# Altium schematic symbol library PocketLab_DMM_EVT0.SchLib: 42 symbols (part 2 of 3)
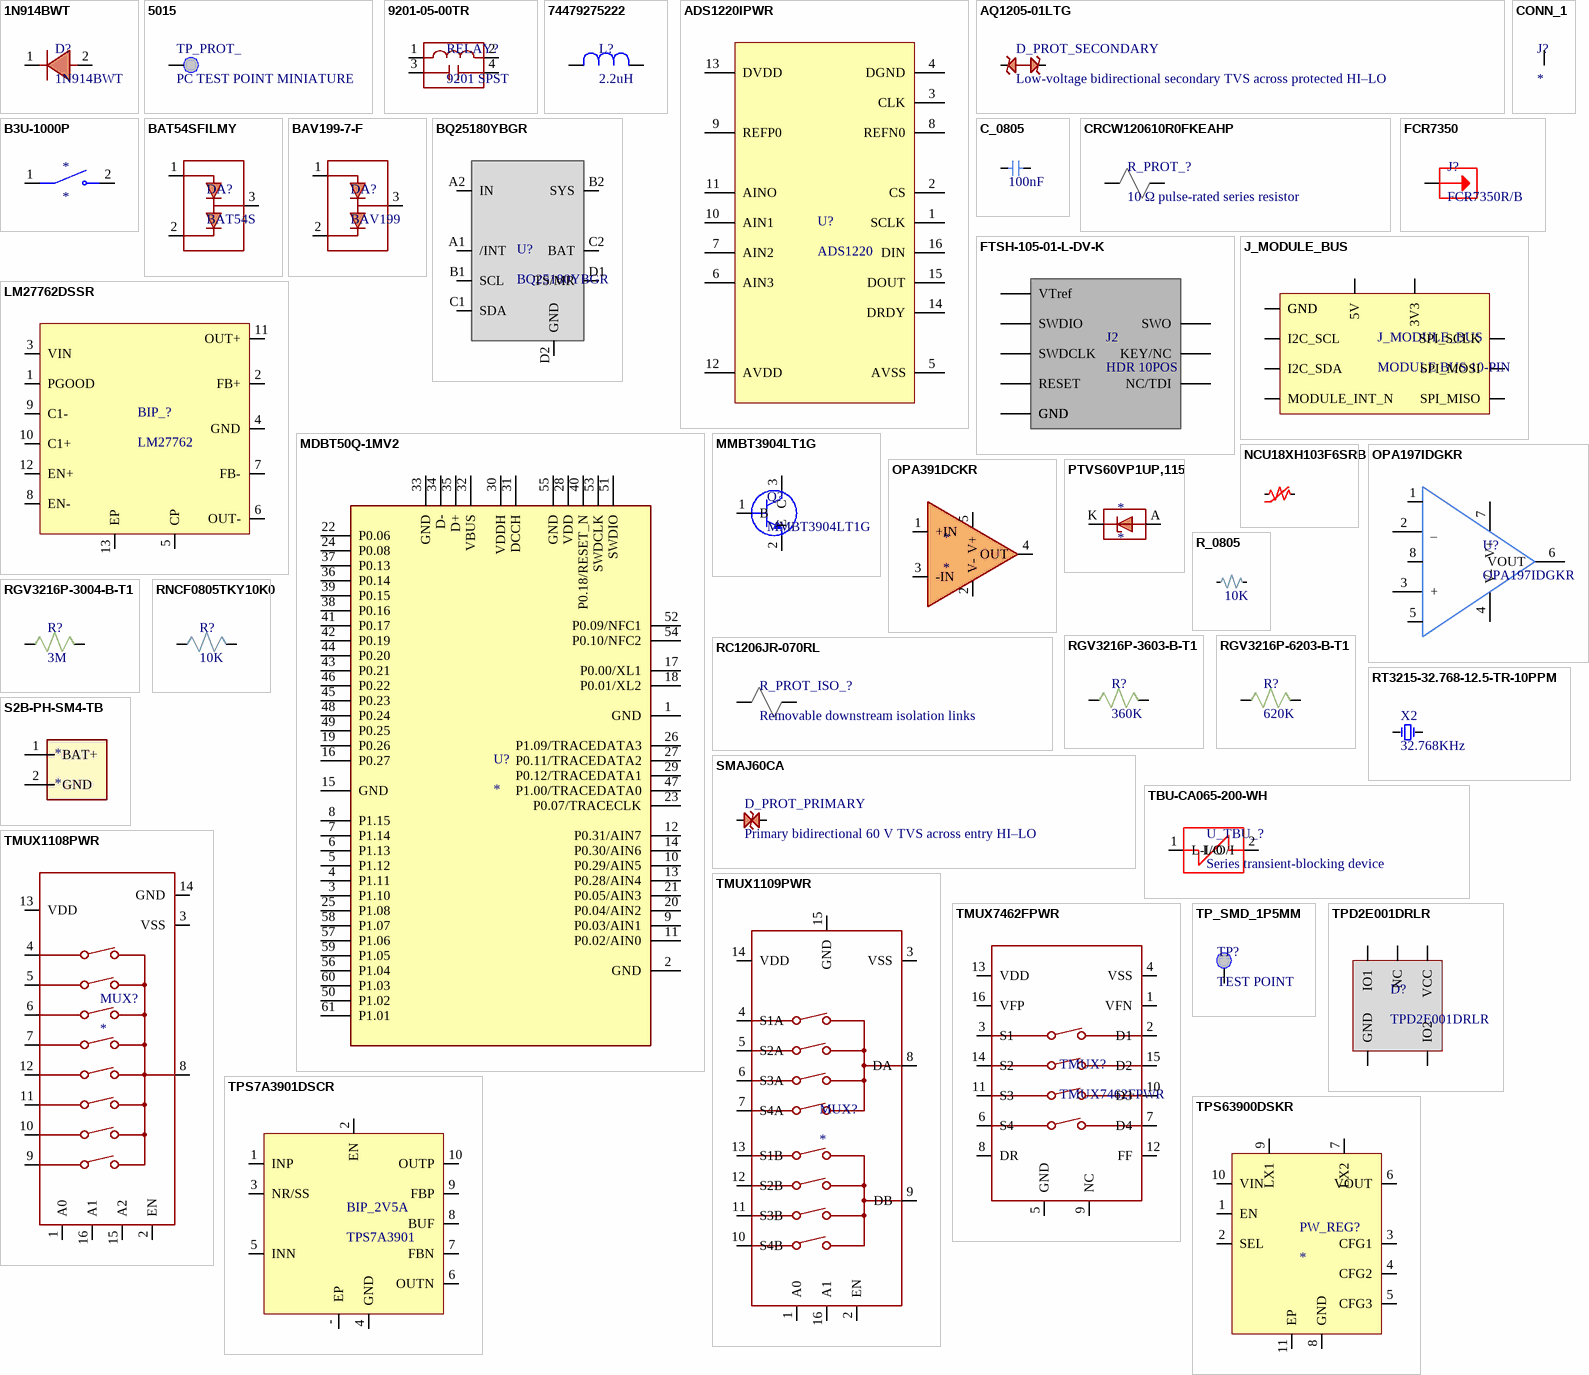
[diagram p2: symbols 1N914BWT to TPS63900DSKR]

## FTSH-105-01-L-DV-K
designator J2, comment HDR 10POS
CONN HEADER SMD 10POS 1.27MM / Connector Header Surface Mount 10 position 0.050" (1.27mm); Manufacturer: Samtec; Manufacturer Part Number: FTSH-105-01-L-DV-K; Manufacturer Lifecycle Status: PRODUCTION; Connector Type: Male Pin; Gender: Female; Max Current Rating: 1.75A; Number of Contacts: 10; Supplier: DigiKey; Supplier Part Number: SAM8799-ND; RoHS: Compliant; Category: Headers and Wire Housings; Stock: 47624; Pricing: 1=1.37, 100=1.075, 250=0.972, 500=0.855, 1000=0.753, 2500=0.68, 5000=0.607, 10000=0.52375 (USD); Color: Black; Contact Material: Bronze; Contact Mating Length: 3.048mm; Contact Plating: Gold; Depth: 3.43mm; Housing Color: Black; Housing Material: Polymer; Lead Free: Lead Free; Length: 6.35mm; Lifecycle Status: Production; Max Operating Temperature: 125°C; Min Operating Temperature: -55°C; Mounting Technology: Surface Mount; Pins: 10; Number of Positions: 10; Number of Rows: 2; Pitch: 1.27mm; Radiation Hardening: No; REACH SVHC: No; Row Spacing: 1.27mm; Termination: Solder; ComponentLink1URL: https://datasheet.octopart.com:443/FTSH-105-01-L-DV-K-Samtec-datasheet-140825048.pdf?src-supplier=Electro+Sonic; ComponentLink1Description: https://datasheet.octopart.com:443/FTSH-105-01-L-DV-K-Samtec-datasheet-140825048.pdf?src-supplier=Electro+Sonic; ComponentLink2URL: https://datasheet.octopart.com:443/FTSH-105-01-L-DV-K-Samtec-datasheet-86818370.pdf?src-supplier=Upverter; ComponentLink2Description: https://datasheet.octopart.com:443/FTSH-105-01-L-DV-K-Samtec-datasheet-86818370.pdf?src-supplier=Upverter; ComponentLink3URL: https://datasheet.octopart.com:443/FTSH-105-01-L-DV-K-Samtec-datasheet-97029545.pdf?src-supplier=Newark; ComponentLink3Description: https://datasheet.octopart.com:443/FTSH-105-01-L-DV-K-Samtec-datasheet-97029545.pdf?src-supplier=Newark; ComponentLink4URL: https://datasheet.octopart.com:443/FTSH-105-01-L-DV-K-Samtec-datasheet-41642889.pdf?src-supplier=Newark; ComponentLink4Description: https://datasheet.octopart.com:443/FTSH-105-01-L-DV-K-Samtec-datasheet-41642889.pdf?src-supplier=Newark; ComponentLink5URL: https://sigma.octopart.com:443/140871554/technical_drawing/Samtec-FTSH-105-01-L-DV-K.pdf?src-supplier=Samtec; ComponentLink5Description: https://sigma.octopart.com:443/140871554/technical_drawing/Samtec-FTSH-105-01-L-DV-K.pdf?src-supplier=Samtec; ComponentLink6URL: https://sigma.octopart.com:443/97029548/technical_drawing/Samtec-FTSH-105-01-L-DV-K.pdf?src-supplier=Samtec; ComponentLink6Description: https://sigma.octopart.com:443/97029548/technical_drawing/Samtec-FTSH-105-01-L-DV-K.pdf?src-supplier=Samtec; ComponentLink7URL: https://datasheet.octopart.com:443/FTSH-105-01-L-DV-K-Samtec-datasheet-100454331.pdf?src-supplier=Farnell; ComponentLink7Description: https://datasheet.octopart.com:443/FTSH-105-01-L-DV-K-Samtec-datasheet-100454331.pdf?src-supplier=Farnell; ComponentLink8URL: https://datasheet.octopart.com:443/FTSH-105-01-L-DV-K-Samtec-datasheet-33007714.pdf?src-supplier=Farnell; ComponentLink8Description: https://datasheet.octopart.com:443/FTSH-105-01-L-DV-K-Samtec-datasheet-33007714.pdf?src-supplier=Farnell; ComponentLink9URL: https://datasheet.octopart.com:443/FTSH-105-01-L-DV-K-Samtec-datasheet-16646209.pdf?src-supplier=element14+APAC; ComponentLink9Description: https://datasheet.octopart.com:443/FTSH-105-01-L-DV-K-Samtec-datasheet-16646209.pdf?src-supplier=element14+APAC; ComponentLink10URL: https://datasheet.octopart.com:443/FTSH-105-01-L-DV-K-Samtec-datasheet-180249087.pdf?src-supplier=JRH+Electronics; ComponentLink10Description: https://datasheet.octopart.com:443/FTSH-105-01-L-DV-K-Samtec-datasheet-180249087.pdf?src-supplier=JRH+Electronics; ComponentLink11URL: https://datasheet.octopart.com:443/FTSH-105-01-L-DV-K-Samtec-datasheet-176663386.pdf?src-supplier=Toby+Electronics; ComponentLink11Description: https://datasheet.octopart.com:443/FTSH-105-01-L-DV-K-Samtec-datasheet-176663386.pdf?src-supplier=Toby+Electronics; ComponentLink12URL: https://datasheet.octopart.com:443/FTSH-105-01-L-DV-K-Samtec-datasheet-133497664.pdf?src-supplier=Toby+Electronics; ComponentLink12Description: https://datasheet.octopart.com:443/FTSH-105-01-L-DV-K-Samtec-datasheet-133497664.pdf?src-supplier=Toby+Electronics; ComponentLink13URL: https://datasheet.octopart.com:443/FTSH-105-01-L-DV-K-Samtec-datasheet-116535196.pdf?src-supplier=Toby+Electronics; ComponentLink13Description: https://datasheet.octopart.com:443/FTSH-105-01-L-DV-K-Samtec-datasheet-116535196.pdf?src-supplier=Toby+Electronics; ComponentLink14URL: https://datasheet.octopart.com:443/FTSH-105-01-L-DV-K-Samtec-datasheet-151470459.pdf?src-supplier=Sager+Electronics; ComponentLink14Description: https://datasheet.octopart.com:443/FTSH-105-01-L-DV-K-Samtec-datasheet-151470459.pdf?src-supplier=Sager+Electronics; ComponentLink15URL: https://datasheet.octopart.com:443/FTSH-105-01-L-DV-K-Samtec-datasheet-151470458.pdf?src-supplier=Sager+Electronics; ComponentLink15Description: https://datasheet.octopart.com:443/FTSH-105-01-L-DV-K-Samtec-datasheet-151470458.pdf?src-supplier=Sager+Electronics; ComponentLink16URL: https://datasheet.octopart.com:443/FTSH-105-01-L-DV-K-Samtec-datasheet-137316104.pdf?src-supplier=Future+Electronics; ComponentLink16Description: https://datasheet.octopart.com:443/FTSH-105-01-L-DV-K-Samtec-datasheet-137316104.pdf?src-supplier=Future+Electronics; ComponentLink17URL: https://datasheet.octopart.com/FTSH-105-01-L-DV-K-Samtec-datasheet-13696953.pdf; ComponentLink17Description: https://datasheet.octopart.com/FTSH-105-01-L-DV-K-Samtec-datasheet-13696953.pdf; ComponentLink18URL: https://datasheet.octopart.com/FTSH-105-01-L-DV-K-Samtec-datasheet-11553404.pdf; ComponentLink18Description: https://datasheet.octopart.com/FTSH-105-01-L-DV-K-Samtec-datasheet-11553404.pdf
footprint FTSH-105-01-L-DV-K (CONN HEADER SMD 10POS 1.27MM)
pins: 1 VTref, 2 SWDIO, 3 GND, 4 SWDCLK, 5 GND, 6 SWO, 7 KEY/NC, 8 NC/TDI, 9 GND, 10 RESET

## J_MODULE_BUS
designator J_MODULE_BUS, comment MODULE BUS 10-PIN
10-pin stackable module interface for power, I2C, SPI, and shared interrupt
footprint MODULE_BUS_10_TAB_SLOT (10-pin stackable module interface for power, I2C, SPI, and shared interrupt)
pins: 1 GND, 2 5V, 3 3V3, 4 GND, 5 I2C_SCL, 6 I2C_SDA, 7 SPI_SCLK, 8 SPI_MOSI, 9 SPI_MISO, 10 MODULE_INT_N

## LM27762DSSR
designator BIP_?, comment LM27762
IC REG CHARGE PUMP ADJ DL 12WSON; Manufacturer: Texas Instruments; Manufacturer Part Number: LM27762DSSR; Manufacturer Lifecycle Status: ACTIVE; Max Junction Temperature (Tj): 125°C; Max Supply Voltage: 5.5V; Min Supply Voltage: 2.7V; Nominal Supply Current: 390µA; Number of Outputs: 2; Output Current: 250mA; Switching Frequency: 2MHz; Supplier: DigiKey; Supplier Part Number: 296-47331-1-ND; RoHS: Compliant; Category: Voltage Regulators - Linear; Stock: 13224; Pricing: 1=2.31, 10=1.71, 25=1.56, 100=1.3951, 250=1.3166, 500=1.27756 (USD); Ambient Temperature Range High: 85°C; Height: 800µm; Lead Free: Lead Free; Length: 2mm; Lifecycle Status: Production; Max Operating Temperature: 85°C; Min Operating Temperature: -40°C; Pins: 12; Quiescent Current: 390µA; Schedule B: 8542390000, 8542390000|8542390000|8542390000|8542390000|8542390000|8542390000|8542390000|8542390000|8542390000|8542390000|8542390000|8542390000|8542390000|8542390000|8542390000|8542390000|8542390000|8542390000|8542390000|8542390000|8542390000|8542390000|8542390000|85; Thickness: 750µm; Topology: Charge Pump; Width: 3mm; ComponentLink1URL: https://sigma.octopart.com:443/81678663/technical_drawing/Texas-Instruments-LM27762DSSR.pdf?src-supplier=Texas+Instruments; ComponentLink1Description: https://sigma.octopart.com:443/81678663/technical_drawing/Texas-Instruments-LM27762DSSR.pdf?src-supplier=Texas+Instruments; ComponentLink2URL: https://octopart.com:443/opatz8j6/c1?t=qGW3fZh6rbzjUEzWZb6D8x9Jd9q3NO4LuKNvuUXcmNXskur0gYfHNShI7YjLnZogpd9ODFUKBHAv0xEzrjgN1BrsAvb29dPQQtindGASqOiPvbwzUittcVayaRgSMCg2PyURFa49judjR-51k2Tshh2avWoGwgQTauKHgHZEW1Mi2Ud_2FxC8vdIlRVQjGWOBt96NojCfVSAyBJQfCKlmTnPWgt58ShaVxaP5ZSWMNo2UvVyuLyEyCOAoev3GSskx9qmSgTKhJ3cbX_JDZZZwra_UfmHMAAkkgUJY6mu---dDSxqTCFw1RGrjYUCVaQP1B7olnvSIU_HpNn-bohxhx31vydGjWcs0o-BEum2ZwS4owcBlLlUIutb_ZCv9KPs3-sdHNg&src-supplier=Texas+Instruments; ComponentLink2Description: https://octopart.com:443/opatz8j6/c1?t=qGW3fZh6rbzjUEzWZb6D8x9Jd9q3NO4LuKNvuUXcmNXskur0gYfHNShI7YjLnZogpd9ODFUKBHAv0xEzrjgN1BrsAvb29dPQQtindGASqOiPvbwzUittcVayaRgSMCg2PyURFa49judjR-51k2Tshh2avWoGwgQTauKHgHZEW1Mi2Ud_2FxC8vdIlRVQjGWOBt96NojCfVSAyBJQfCKlmTnPWgt58ShaVxaP5ZSWMNo2UvVyuLyEyCOAoev3GSskx9qmSgTKhJ3cbX_JDZZZwra_UfmHMAAkkgUJY6mu---dDSxqTCFw1RGrjYUCVaQP1B7olnvSIU_HpNn-bohxhx31vydGjWcs0o-BEum2ZwS4owcBlLlUIutb_ZCv9KPs3-sdHNg&src-supplier=Texas+Instruments; ComponentLink3URL: https://sigma.octopart.com:443/49250719/technical_drawing/Texas-Instruments-LM27762DSSR.pdf?src-supplier=Texas+Instruments; ComponentLink3Description: https://sigma.octopart.com:443/49250719/technical_drawing/Texas-Instruments-LM27762DSSR.pdf?src-supplier=Texas+Instruments; ComponentLink4URL: https://datasheet.octopart.com:443/LM27762DSSR-Texas-Instruments-datasheet-159115144.pdf?src-supplier=LCSC; ComponentLink4Description: https://datasheet.octopart.com:443/LM27762DSSR-Texas-Instruments-datasheet-159115144.pdf?src-supplier=LCSC; ComponentLink5URL: https://datasheet.octopart.com:443/LM27762DSSR-Texas-Instruments-datasheet-164414993.pdf?src-supplier=SHENGYU+ELECTRONICS; ComponentLink5Description: https://datasheet.octopart.com:443/LM27762DSSR-Texas-Instruments-datasheet-164414993.pdf?src-supplier=SHENGYU+ELECTRONICS; ComponentLink6URL: https://datasheet.octopart.com:443/LM27762DSSR-Texas-Instruments-datasheet-150873029.pdf?src-supplier=Arrow.cn; ComponentLink6Description: https://datasheet.octopart.com:443/LM27762DSSR-Texas-Instruments-datasheet-150873029.pdf?src-supplier=Arrow.cn; ComponentLink7URL: https://datasheet.octopart.com:443/LM27762DSSR-Texas-Instruments-datasheet-137316104.pdf?src-supplier=Future+Electronics; ComponentLink7Description: https://datasheet.octopart.com:443/LM27762DSSR-Texas-Instruments-datasheet-137316104.pdf?src-supplier=Future+Electronics; ComponentLink8URL: http://sigma.octopart.com:80/reach_statement/Texas-Instruments-company-64.pdf?src-supplier=Compliance+Statements; ComponentLink8Description: http://sigma.octopart.com:80/reach_statement/Texas-Instruments-company-64.pdf?src-supplier=Compliance+Statements; ComponentLink9URL: http://sigma.octopart.com:80/conflict_mineral_statement/Texas-Instruments-company-63.pdf?src-supplier=Compliance+Statements; ComponentLink9Description: http://sigma.octopart.com:80/conflict_mineral_statement/Texas-Instruments-company-63.pdf?src-supplier=Compliance+Statements
footprint LM27762
pins: 1 PGOOD, 2 FB+, 3 VIN, 4 GND, 5 CP, 6 OUT-, 7 FB-, 8 EN-, 9 C1-, 10 C1+, 11 OUT+, 12 EN+, 13 EP

## MDBT50Q-1MV2
designator U?
802.15.4, Bluetooth Bluetooth v5.4, ZigbeeÂ® Transceiver Module 2.36GHz ~ 2.5GHz Integrated, Chip Surface Mount; MF: Raytac Corporation; MP: MDBT50Q-1MV2; SnapEDA_Link: https://www.snapeda.com/parts/MDBT50Q-1MV2/Raytac+Corporation/view-part/?ref=snap; Package: SMD-61 Raytac Corporation; Value: *; Check_prices: https://www.snapeda.com/parts/MDBT50Q-1MV2/Raytac+Corporation/view-part/?ref=eda
footprint NRF52840_MDBT50Q-1MV2
pins: 1 GND, 2 GND, 3 P1.10, 4 P1.11, 5 P1.12, 6 P1.13, 7 P1.14, 8 P1.15, 9 P0.03/AIN1, 10 P0.29/AIN5, 11 P0.02/AIN0, 12 P0.31/AIN7, 13 P0.28/AIN4, 14 P0.30/AIN6, 15 GND, 16 P0.27, 17 P0.00/XL1, 18 P0.01/XL2, 19 P0.26, 20 P0.04/AIN2, 21 P0.05/AIN3, 22 P0.06, 23 P0.07/TRACECLK, 24 P0.08, 25 P1.08, 26 P1.09/TRACEDATA3, 27 P0.11/TRACEDATA2, 28 VDD, 29 P0.12/TRACEDATA1, 30 VDDH, 31 DCCH, 32 VBUS, 33 GND, 34 D-, 35 D+, 36 P0.14, 37 P0.13, 38 P0.16, 39 P0.15, 40 P0.18/RESET_N, 41 P0.17, 42 P0.19, 43 P0.21, 44 P0.20, 45 P0.23, 46 P0.22, 47 P1.00/TRACEDATA0, 48 P0.24, 49 P0.25, 50 P1.02, 51 SWDIO, 52 P0.09/NFC1, 53 SWDCLK, 54 P0.10/NFC2, 55 GND, 56 P1.04, 57 P1.06, 58 P1.07, 59 P1.05, 60 P1.03, 61 P1.01

## MMBT3904LT1G
designator Q?
TRANS NPN 40V 0.2A SOT23-3; Manufacturer: onsemi; Manufacturer Lifecycle Status: ACTIVE; Collector Base Voltage (VCBO): 60V; Collector Emitter Saturation Voltage: 200mV; Current Rating: 200mA; Element Configuration: Single; Emitter Base Voltage (VEBO): 6V; Frequency: 300MHz; hFE Min: 30; Max Junction Temperature (Tj): 150°C; Max Power Dissipation: 300mW; Number of Elements: 1; Power Dissipation: 225mW; Type: General Purpose; Supplier: DigiKey; Supplier Part Number: MMBT3904LT1GOSDKR-ND; Manufacturer Part Number: MMBT3904LT1G; RoHS: Compliant; Category: BJTs; Stock: 189758; Pricing: 1=0.14, 10=0.086, 100=0.0527, 500=0.03806, 1000=0.03329 (USD); Case/Package: SOT-23; China RoHS: Compliant; Collector Emitter Breakdown Voltage: 40V; Collector Emitter Voltage (VCEO): 40V; Contact Plating: Tin; Gain Bandwidth Product: 300MHz; Height: 1.11mm; Lead Free: Lead Free; Length: 2.9mm; Lifecycle Status: Production; Max Breakdown Voltage: 40V; Max Collector Current: 200mA; Clock Frequency: 300MHz; Max Operating Temperature: 150°C; Min Operating Temperature: -55°C; Pins: 3; Number of Terminals: 3; Packaging: Tape and Reel; Polarity: NPN; Radiation Hardening: No; REACH SVHC: Yes; Schedule B: 8541210080; Transition Frequency: 300MHz; Voltage Rating (DC): 40V; Width: 1.3mm; ComponentLink1URL: https://datasheet.octopart.com:443/MMBT3904LT1G-ON-Semiconductor-datasheet-11971584.pdf?src-supplier=Upverter; ComponentLink1Description: https://datasheet.octopart.com:443/MMBT3904LT1G-ON-Semiconductor-datasheet-11971584.pdf?src-supplier=Upverter; ComponentLink2URL: https://datasheet.octopart.com:443/MMBT3904LT1G-ON-Semiconductor-datasheet-618661.pdf?src-supplier=Upverter; ComponentLink2Description: https://datasheet.octopart.com:443/MMBT3904LT1G-ON-Semiconductor-datasheet-618661.pdf?src-supplier=Upverter; ComponentLink3URL: https://datasheet.octopart.com:443/MMBT3904LT1G-ON-Semiconductor-datasheet-8327178.pdf?src-supplier=Upverter; ComponentLink3Description: https://datasheet.octopart.com:443/MMBT3904LT1G-ON-Semiconductor-datasheet-8327178.pdf?src-supplier=Upverter; ComponentLink4URL: https://sigma.octopart.com:443/138897241/technical_drawing/ON-Semiconductor-MMBT3904LT1G.pdf?src-supplier=Upverter; ComponentLink4Description: https://sigma.octopart.com:443/138897241/technical_drawing/ON-Semiconductor-MMBT3904LT1G.pdf?src-supplier=Upverter; ComponentLink5URL: https://datasheet.octopart.com:443/MMBT3904LT1G-ON-Semiconductor-datasheet-94100684.pdf?src-supplier=Newark; ComponentLink5Description: https://datasheet.octopart.com:443/MMBT3904LT1G-ON-Semiconductor-datasheet-94100684.pdf?src-supplier=Newark; ComponentLink6URL: https://datasheet.octopart.com:443/MMBT3904LT1G-onsemi-datasheet-175423507.pdf?src-supplier=IHS; ComponentLink6Description: https://datasheet.octopart.com:443/MMBT3904LT1G-onsemi-datasheet-175423507.pdf?src-supplier=IHS; ComponentLink7URL: https://datasheet.octopart.com:443/MMBT3904LT1G-ON-Semiconductor-datasheet-15850735.pdf?src-supplier=element14+APAC; ComponentLink7Description: https://datasheet.octopart.com:443/MMBT3904LT1G-ON-Semiconductor-datasheet-15850735.pdf?src-supplier=element14+APAC; ComponentLink8URL: https://datasheet.octopart.com:443/MMBT3904LT1G-onsemi-datasheet-157205106.pdf?src-supplier=TME; ComponentLink8Description: https://datasheet.octopart.com:443/MMBT3904LT1G-onsemi-datasheet-157205106.pdf?src-supplier=TME; ComponentLink9URL: https://datasheet.octopart.com:443/MMBT3904LT1G-ON-Semiconductor-datasheet-42916338.pdf?src-supplier=Seeed+Studio; ComponentLink9Description: https://datasheet.octopart.com:443/MMBT3904LT1G-ON-Semiconductor-datasheet-42916338.pdf?src-supplier=Seeed+Studio; ComponentLink10URL: https://datasheet.octopart.com:443/MMBT3904LT1G-ON-Semiconductor-datasheet-14065146.pdf?src-supplier=iiiC; ComponentLink10Description: https://datasheet.octopart.com:443/MMBT3904LT1G-ON-Semiconductor-datasheet-14065146.pdf?src-supplier=iiiC; ComponentLink11URL: https://datasheet.octopart.com:443/MMBT3904LT1G-onsemi-datasheet-11078203.pdf?src-supplier=Master+Electronics; ComponentLink11Description: https://datasheet.octopart.com:443/MMBT3904LT1G-onsemi-datasheet-11078203.pdf?src-supplier=Master+Electronics; ComponentLink12URL: https://datasheet.octopart.com:443/MMBT3904LT1G-ON-Semiconductor-datasheet-9992889.pdf?src-supplier=RS+(Formerly+Allied+Electronics); ComponentLink12Description: https://datasheet.octopart.com:443/MMBT3904LT1G-ON-Semiconductor-datasheet-9992889.pdf?src-supplier=RS+(Formerly+Allied+Electronics); ComponentLink13URL: http://sigma.octopart.com:80/150618431/rohs_statement/ON-Semiconductor-MMBT3904LT1G.pdf?src-supplier=Compliance+Statements; ComponentLink13Description: http://sigma.octopart.com:80/150618431/rohs_statement/ON-Semiconductor-MMBT3904LT1G.pdf?src-supplier=Compliance+Statements; ComponentLink14URL: http://sigma.octopart.com:80/reach_statement/ON-Semiconductor-company-79.pdf?src-supplier=Compliance+Statements; ComponentLink14Description: http://sigma.octopart.com:80/reach_statement/ON-Semiconductor-company-79.pdf?src-supplier=Compliance+Statements; ComponentLink15URL: http://sigma.octopart.com:80/rohs_statement/Fairchild-Semiconductor-company-11.pdf?src-supplier=Compliance+Statements; ComponentLink15Description: http://sigma.octopart.com:80/rohs_statement/Fairchild-Semiconductor-company-11.pdf?src-supplier=Compliance+Statements; ComponentLink16URL: http://sigma.octopart.com:80/rohs_statement/Fairchild-Semiconductor-company-10.pdf?src-supplier=Compliance+Statements; ComponentLink16Description: http://sigma.octopart.com:80/rohs_statement/Fairchild-Semiconductor-company-10.pdf?src-supplier=Compliance+Statements; ComponentLink17URL: http://sigma.octopart.com:80/reach_statement/Fairchild-Semiconductor-company-9.pdf?src-supplier=Compliance+Statements; ComponentLink17Description: http://sigma.octopart.com:80/reach_statement/Fairchild-Semiconductor-company-9.pdf?src-supplier=Compliance+Statements; ComponentLink18URL: https://octopart.com:443/opatz8j6/c1?t=6Xn7ZrF6hysOUC84qlrSqY4wiQdrN-mPXKQ_8Rla8IkVly0DBC3XMOxgBnPoFxbPxSduxt1CU9xvbCNH0dZZ2fSPxrCiu0NHjXK1AEqfl5xODuP5YJP7pfSgZ8QNFl02tAnTqW6w1aVJmMTvNdbX5LfPzPLhtU1PYqNVsEPH2I4uNn2UF3IV2P2UT1zVRcnQIPoIWXKohBgaCPKWifMJG2N61Au2Wz4170xn6Vu5FG_CLPs0I4wu6gksT39gSmG6GKW27rzSZjefFxUNhsDMvXXdZPXoa_giO80NkyKEb8_6ha9AliWeLbEvMGgfnng9nYF8sw6XCX6uqkfeLxUIFVSSx4aXaZZhz9egcw&src-supplier=Compliance+Statements; ComponentLink18Description: https://octopart.com:443/opatz8j6/c1?t=6Xn7ZrF6hysOUC84qlrSqY4wiQdrN-mPXKQ_8Rla8IkVly0DBC3XMOxgBnPoFxbPxSduxt1CU9xvbCNH0dZZ2fSPxrCiu0NHjXK1AEqfl5xODuP5YJP7pfSgZ8QNFl02tAnTqW6w1aVJmMTvNdbX5LfPzPLhtU1PYqNVsEPH2I4uNn2UF3IV2P2UT1zVRcnQIPoIWXKohBgaCPKWifMJG2N61Au2Wz4170xn6Vu5FG_CLPs0I4wu6gksT39gSmG6GKW27rzSZjefFxUNhsDMvXXdZPXoa_giO80NkyKEb8_6ha9AliWeLbEvMGgfnng9nYF8sw6XCX6uqkfeLxUIFVSSx4aXaZZhz9egcw&src-supplier=Compliance+Statements; ComponentLink19URL: https://octopart.com:443/opatz8j6/c1?t=8IRzLcMOYTb9JijI-po6TFZCAUzXib-H1R20XCLpzmhIGre0bWRXe4ZO8lRdDfF3CLOGncXrdohN3KmiOTqxwjTHC1r89hWIZDbBVEUVc9Q9O159qKwDTUXpIzAsHJigIaeBGLyIo10FCT0IJpWkJe3Af8Ts36u8FHUZlIMCnry_JzPNglOFJd8Q37gYK_hPK5FL94xWLlsZYNj58V_g4S0R_SZTueiY5oHGNdfq_Zs3fbV3kHE__W-q6emv4yhSM8EHIIJwaXdr2iL-5-sB4yTOqwO_ItA84y4jC2VE_619edN7Ju53SNxRGHixzhXtKIq-sYkPqUptt85PTjBtSIydYnRzf0D6rRR5&src-supplier=Compliance+Statements; ComponentLink19Description: https://octopart.com:443/opatz8j6/c1?t=8IRzLcMOYTb9JijI-po6TFZCAUzXib-H1R20XCLpzmhIGre0bWRXe4ZO8lRdDfF3CLOGncXrdohN3KmiOTqxwjTHC1r89hWIZDbBVEUVc9Q9O159qKwDTUXpIzAsHJigIaeBGLyIo10FCT0IJpWkJe3Af8Ts36u8FHUZlIMCnry_JzPNglOFJd8Q37gYK_hPK5FL94xWLlsZYNj58V_g4S0R_SZTueiY5oHGNdfq_Zs3fbV3kHE__W-q6emv4yhSM8EHIIJwaXdr2iL-5-sB4yTOqwO_ItA84y4jC2VE_619edN7Ju53SNxRGHixzhXtKIq-sYkPqUptt85PTjBtSIydYnRzf0D6rRR5&src-supplier=Compliance+Statements
footprint MMBT3904
pins: 1 B, 2 E, 3 C

## NCU18XH103F6SRB
designator RT?  (value not drawn)
THERMISTOR NTC 10KOHM 3380K 0603 / NTC Thermistor 10k 0603 (1608 Metric); Manufacturer: Murata; Max Current Rating: 100µA; Value: 10kΩ; Tolerance: 1%; Voltage Rating: 5V; Supplier: DigiKey; Supplier Part Number: 490-18139-6-ND; Manufacturer Part Number: NCU18XH103F6SRB; RoHS: Compliant; Category: Variable Resistors and Potentiometers; Stock: 103374; Pricing: 1=0.14, 5=0.124, 10=0.117, 25=0.1076, 50=0.1016, 100=0.096, 500=0.08492, 1000=0.08083 (USD); Case/Package: 0603; Case Code (Imperial): 0603; Case Code (Metric): 1608; Export Control Classification Number (ECCN) Code: EAR99; Height: 800µm; Harmonized Tariff Schedule (HTS) Code: 8533.40.80.70; Introduction Date: 2016-05-16; Length: 1.6mm; Lifecycle Status: Production; Max Operating Temperature: 150°C; Min Operating Temperature: -55°C; Mounting Technology: Surface Mount; Number of Terminals: 2; Ratings: AEC-Q200; REACH SVHC: Yes; Schedule B: 8533400080, 8533400080|8533400080, 8533400080|8533400080|8533400080, 8533400080|8533400080|8533400080|8533400080; Width: 800µm; Working Voltage: 5V; ComponentLink1URL: https://datasheet.octopart.com:443/NCU18XH103F6SRB-Murata-datasheet-182145414.pdf?src-supplier=IHS; ComponentLink1Description: https://datasheet.octopart.com:443/NCU18XH103F6SRB-Murata-datasheet-182145414.pdf?src-supplier=IHS; ComponentLink2URL: https://datasheet.octopart.com:443/NCU18XH103F6SRB-Murata-datasheet-65933868.pdf?src-supplier=Newark; ComponentLink2Description: https://datasheet.octopart.com:443/NCU18XH103F6SRB-Murata-datasheet-65933868.pdf?src-supplier=Newark; ComponentLink3URL: https://datasheet.octopart.com:443/NCU18XH103F6SRB-Murata-datasheet-181958153.pdf?src-supplier=Farnell; ComponentLink3Description: https://datasheet.octopart.com:443/NCU18XH103F6SRB-Murata-datasheet-181958153.pdf?src-supplier=Farnell; ComponentLink4URL: https://datasheet.octopart.com:443/NCU18XH103F6SRB-Murata-datasheet-138710245.pdf?src-supplier=ODG+(Origin+Data+Global); ComponentLink4Description: https://datasheet.octopart.com:443/NCU18XH103F6SRB-Murata-datasheet-138710245.pdf?src-supplier=ODG+(Origin+Data+Global); ComponentLink5URL: https://datasheet.octopart.com:443/NCU18XH103F6SRB-Murata-datasheet-141294565.pdf?src-supplier=Ciiva; ComponentLink5Description: https://datasheet.octopart.com:443/NCU18XH103F6SRB-Murata-datasheet-141294565.pdf?src-supplier=Ciiva; ComponentLink6URL: https://datasheet.octopart.com:443/NCU18XH103F6SRB-Murata-datasheet-165611801.pdf?src-supplier=TME; ComponentLink6Description: https://datasheet.octopart.com:443/NCU18XH103F6SRB-Murata-datasheet-165611801.pdf?src-supplier=TME; ComponentLink7URL: http://sigma.octopart.com:80/reach_statement/Murata-company-16.pdf?src-supplier=Compliance+Statements; ComponentLink7Description: http://sigma.octopart.com:80/reach_statement/Murata-company-16.pdf?src-supplier=Compliance+Statements
footprint NCU18_1608
pins: 1, 2

## OPA197IDGKR
designator U?
Precision rail-to-rail operational amplifier; Manufacturer: Texas Instruments; Manufacturer Lifecycle Status: ACTIVE; Bandwidth: 10MHz; Input Bias Current: 5pA; Input Offset Voltage (Vos): 25µV; Number of Amplifiers: 1; Operating Supply Current: 1mA; Output Current per Channel: 65mA; Slew Rate: 20V/µs; Supplier: DigiKey; Supplier Part Number: 296-44205-1-ND; Manufacturer Part Number: OPA197IDGKR; RoHS: Compliant; Category: Amplifiers - Op Amps, Buffer, Instrumentation; Stock: 2306; Pricing: 1=2.1, 10=1.548, 25=1.4112, 100=1.2599, 250=1.18784, 500=1.1475 (USD); Case/Package: VSSOP; Gain Bandwidth Product: 10MHz; Height: 0m; Lead Free: Lead Free; Length: 3mm; Lifecycle Status: Production; Max Operating Temperature: 125°C; Min Operating Temperature: -40°C; Mounting Technology: Surface Mount; Number of Channels: 1; Number of Circuits: 1; Pins: 8; Packaging: Cut Tape; REACH SVHC: No; Schedule B: 8542330000; Thickness: 970µm; Width: 3mm; ComponentLink1URL: https://sigma.octopart.com:443/178522223/technical_drawing/Texas-Instruments-OPA197IDGKR.pdf?src-supplier=Texas+Instruments; ComponentLink1Description: https://sigma.octopart.com:443/178522223/technical_drawing/Texas-Instruments-OPA197IDGKR.pdf?src-supplier=Texas+Instruments; ComponentLink2URL: https://octopart.com:443/opatz8j6/c1?t=FOH0RitQzD0XlKnT_NgRAgueVSVogVIH0_VtQKvX5g7tSbiKJHTY1QoPj-fRZWmhrDdG3-oaeD6KdjkigGqv_J-kshTw3jN_-Wt-WPxaVrD8pn1GPjwVJZnq1bl9XjIvoPWB7ZeLkdoepKv730yRgLbkP6aQFYp2DXOoQZirO_tZyNijjj9IWQhNZ18j4ImlA22DVwSTOFbSObjO7PzHae2dQ8oh_w5MV0QKndgc48Q4_peIBbvSJ5ut7KrVy2MbvjxsXzd0WmA-PvDo_y8MleauDzvSfGCoV1tfcR96dhtUS7VWbLwUJ1LuFIJRQw7vaioM7VjuujX3Pxl55TpYA49bpJc_AW7jaO84eqgHL_99ZB-Z4JMV0rb-u9axked6zFdf0Q&src-supplier=Texas+Instruments; ComponentLink2Description: https://octopart.com:443/opatz8j6/c1?t=FOH0RitQzD0XlKnT_NgRAgueVSVogVIH0_VtQKvX5g7tSbiKJHTY1QoPj-fRZWmhrDdG3-oaeD6KdjkigGqv_J-kshTw3jN_-Wt-WPxaVrD8pn1GPjwVJZnq1bl9XjIvoPWB7ZeLkdoepKv730yRgLbkP6aQFYp2DXOoQZirO_tZyNijjj9IWQhNZ18j4ImlA22DVwSTOFbSObjO7PzHae2dQ8oh_w5MV0QKndgc48Q4_peIBbvSJ5ut7KrVy2MbvjxsXzd0WmA-PvDo_y8MleauDzvSfGCoV1tfcR96dhtUS7VWbLwUJ1LuFIJRQw7vaioM7VjuujX3Pxl55TpYA49bpJc_AW7jaO84eqgHL_99ZB-Z4JMV0rb-u9axked6zFdf0Q&src-supplier=Texas+Instruments; ComponentLink3URL: https://datasheet.octopart.com:443/OPA197IDGKR-Texas-Instruments-datasheet-62062805.pdf?src-supplier=Texas+Instruments; ComponentLink3Description: https://datasheet.octopart.com:443/OPA197IDGKR-Texas-Instruments-datasheet-62062805.pdf?src-supplier=Texas+Instruments; ComponentLink4URL: https://sigma.octopart.com:443/49250154/technical_drawing/Texas-Instruments-OPA197IDGKR.pdf?src-supplier=Texas+Instruments; ComponentLink4Description: https://sigma.octopart.com:443/49250154/technical_drawing/Texas-Instruments-OPA197IDGKR.pdf?src-supplier=Texas+Instruments; ComponentLink5URL: https://datasheet.octopart.com:443/OPA197IDGKR-Texas-Instruments-datasheet-65713346.pdf?src-supplier=Newark; ComponentLink5Description: https://datasheet.octopart.com:443/OPA197IDGKR-Texas-Instruments-datasheet-65713346.pdf?src-supplier=Newark; ComponentLink6URL: https://datasheet.octopart.com:443/OPA197IDGKR-Texas-Instruments-datasheet-62333749.pdf?src-supplier=element14+APAC; ComponentLink6Description: https://datasheet.octopart.com:443/OPA197IDGKR-Texas-Instruments-datasheet-62333749.pdf?src-supplier=element14+APAC; ComponentLink7URL: https://datasheet.octopart.com:443/OPA197IDGKR-Texas-Instruments-datasheet-164361763.pdf?src-supplier=SHENGYU+ELECTRONICS; ComponentLink7Description: https://datasheet.octopart.com:443/OPA197IDGKR-Texas-Instruments-datasheet-164361763.pdf?src-supplier=SHENGYU+ELECTRONICS; ComponentLink8URL: https://datasheet.octopart.com:443/OPA197IDGKR-Texas-Instruments-datasheet-100480384.pdf?src-supplier=HQonline; ComponentLink8Description: https://datasheet.octopart.com:443/OPA197IDGKR-Texas-Instruments-datasheet-100480384.pdf?src-supplier=HQonline; ComponentLink9URL: https://datasheet.octopart.com:443/OPA197IDGKR-Texas-Instruments-datasheet-140571582.pdf?src-supplier=Arrow.cn; ComponentLink9Description: https://datasheet.octopart.com:443/OPA197IDGKR-Texas-Instruments-datasheet-140571582.pdf?src-supplier=Arrow.cn; ComponentLink10URL: http://sigma.octopart.com:80/reach_statement/Texas-Instruments-company-64.pdf?src-supplier=Compliance+Statements; ComponentLink10Description: http://sigma.octopart.com:80/reach_statement/Texas-Instruments-company-64.pdf?src-supplier=Compliance+Statements; ComponentLink11URL: http://sigma.octopart.com:80/conflict_mineral_statement/Texas-Instruments-company-63.pdf?src-supplier=Compliance+Statements; ComponentLink11Description: http://sigma.octopart.com:80/conflict_mineral_statement/Texas-Instruments-company-63.pdf?src-supplier=Compliance+Statements
footprint OPA197IDGKR (IC OPAMP GP 1 CIRCUIT 8VSSOP)
pins: 1, 2 _, 3 +, 4 V-, 5, 6 VOUT, 7 V+, 8

## OPA391DCKR
designator *
IC OPAMP GP 1 CIRCUIT SC70-5 / General Purpose Amplifier 1 Circuit Rail-to-Rail SC-70-5; Manufacturer: Texas Instruments; Manufacturer Part Number: OPA391DCKR; Manufacturer Lifecycle Status: ACTIVE; Number of Channels: 1; Supplier: DigiKey; Supplier Part Number: 296-OPA391DCKRCT-ND; RoHS: Compliant; Category: Amplifiers - Op Amps, Buffer, Instrumentation; Stock: 9449; Pricing: 1=2.14, 10=1.581, 25=1.4408, 100=1.287, 250=1.21364, 500=1.17352, 3000=1.08804, 6000=1.06604, 9000=1.05502 (USD); Height: 1.1mm; Length: 2mm; Lifecycle Status: Production; Pins: 5; Schedule B: 8542330000, 8542330000|8542330000|8542330000|8542330000|8542330000|8542330000|8542330000|8542330000|8542330000|8542330000|8542330000|8542330000|8542330000|8542330000|8542330000|8542330000|8542330000|8542330000|8542330000|8542330000|8542330000|8542330000|8542330000|85; Thickness: 900µm; Width: 1.25mm; ComponentLink1URL: https://sigma.octopart.com:443/182282879/technical_drawing/Texas-Instruments-OPA391DCKR.pdf?src-supplier=Texas+Instruments; ComponentLink1Description: https://sigma.octopart.com:443/182282879/technical_drawing/Texas-Instruments-OPA391DCKR.pdf?src-supplier=Texas+Instruments; ComponentLink2URL: https://octopart.com:443/opatz8j6/c1?t=LqM_xeIQomuJP2W4TcZOXSUZVdYOF87_0nzPiLHGu-AQL9pHAzyF-5C7R60sMSsT-r-P0ThcSZDriKOw32pcfE5Jfq-yXtaYGlKb5lKeMZA1DNMukJmvUpP7kaDy786pEb7cfHJqtsInNJonKjpobrVWwGc4U-USDb07Xm9YEoBk40MssgAPwLTKBCy4p5dPjCzZ_VlpCdBFfVN1leqko9GG05dWf14Kga4kgE-_xhzJKw3tmMw427m6gAZluJRVtl3jbKSFJDXeX9dkhwRFLKM37F7XiL6C4LILscxy-EDfgzv_aKaOSYswltJ7308pW5bIUCaqy0I1ZPvkrpyyc7wlOESXDrD_7lDzhoOxRxzDVat-mMXQcQotImLMI2gaL8X65Q&src-supplier=Texas+Instruments; ComponentLink2Description: https://octopart.com:443/opatz8j6/c1?t=LqM_xeIQomuJP2W4TcZOXSUZVdYOF87_0nzPiLHGu-AQL9pHAzyF-5C7R60sMSsT-r-P0ThcSZDriKOw32pcfE5Jfq-yXtaYGlKb5lKeMZA1DNMukJmvUpP7kaDy786pEb7cfHJqtsInNJonKjpobrVWwGc4U-USDb07Xm9YEoBk40MssgAPwLTKBCy4p5dPjCzZ_VlpCdBFfVN1leqko9GG05dWf14Kga4kgE-_xhzJKw3tmMw427m6gAZluJRVtl3jbKSFJDXeX9dkhwRFLKM37F7XiL6C4LILscxy-EDfgzv_aKaOSYswltJ7308pW5bIUCaqy0I1ZPvkrpyyc7wlOESXDrD_7lDzhoOxRxzDVat-mMXQcQotImLMI2gaL8X65Q&src-supplier=Texas+Instruments; ComponentLink3URL: https://sigma.octopart.com:443/179129132/technical_drawing/Texas-Instruments-OPA391DCKR.pdf?src-supplier=Texas+Instruments; ComponentLink3Description: https://sigma.octopart.com:443/179129132/technical_drawing/Texas-Instruments-OPA391DCKR.pdf?src-supplier=Texas+Instruments; ComponentLink4URL: https://sigma.octopart.com:443/176385615/technical_drawing/Texas-Instruments-OPA391DCKR.pdf?src-supplier=Texas+Instruments; ComponentLink4Description: https://sigma.octopart.com:443/176385615/technical_drawing/Texas-Instruments-OPA391DCKR.pdf?src-supplier=Texas+Instruments; ComponentLink5URL: https://sigma.octopart.com:443/169406035/technical_drawing/Texas-Instruments-OPA391DCKR.pdf?src-supplier=Texas+Instruments; ComponentLink5Description: https://sigma.octopart.com:443/169406035/technical_drawing/Texas-Instruments-OPA391DCKR.pdf?src-supplier=Texas+Instruments; ComponentLink6URL: https://datasheet.octopart.com:443/OPA391DCKR-Texas-Instruments-datasheet-158379562.pdf?src-supplier=SHENGYU+ELECTRONICS; ComponentLink6Description: https://datasheet.octopart.com:443/OPA391DCKR-Texas-Instruments-datasheet-158379562.pdf?src-supplier=SHENGYU+ELECTRONICS; ComponentLink7URL: http://sigma.octopart.com:80/reach_statement/Texas-Instruments-company-64.pdf?src-supplier=Compliance+Statements; ComponentLink7Description: http://sigma.octopart.com:80/reach_statement/Texas-Instruments-company-64.pdf?src-supplier=Compliance+Statements; ComponentLink8URL: http://sigma.octopart.com:80/conflict_mineral_statement/Texas-Instruments-company-63.pdf?src-supplier=Compliance+Statements; ComponentLink8Description: http://sigma.octopart.com:80/conflict_mineral_statement/Texas-Instruments-company-63.pdf?src-supplier=Compliance+Statements
footprint OPA391DCKR
pins: 1 +IN, 2 V-, 3 -IN, 4 OUT, 5 V+

## PTVS60VP1UP,115
designator *
TVS DIODE 60VWM 96.8VC SOD128 / TVS Diode Single Uni-Dir 60V 600W Automotive 2-Pin SOD-128 T/R; Manufacturer: Nexperia; Manufacturer Part Number: PTVS60VP1UP,115; Manufacturer Lifecycle Status: RELEASED FOR SUPPLY; Breakdown Voltage: 70.2V; Clamping Voltage: 96.8V; Direction: Unidirectional; ESD Protection: Yes; Leakage Current: 100nA; Max Breakdown Voltage: 73.7V; Max Surge Current: 6.2A; Min Breakdown Voltage: 66.7V; Number of Channels: 1; Power Line Protection: No; Test Current: 1mA; Supplier: DigiKey; Supplier Part Number: 1727-4448-1-ND; RoHS: Compliant; Category: TVS Diodes; Stock: 2500; Pricing: 1=0.7, 10=0.434, 50=0.3162, 100=0.2779, 500=0.21056 (USD); China RoHS: Non-Compliant; Composition: Zener; Contact Plating: Tin; Element Configuration: Single; Lead Free: Lead Free; Lifecycle Status: Production; Max Operating Temperature: 150°C; Max Reverse Leakage Current: 100nA; Min Operating Temperature: -55°C; Mounting Technology: Surface Mount; Number of Elements: 1; Pins: 2; Number of Terminals: 2; Number of Unidirectional Channels: 1; Peak Pulse Current: 6.2A; Peak Pulse Power: 600W; Peak Reverse Current: 100nA; Polarity: Unidirectional; Ratings: AEC-Q101; REACH SVHC: No; Reverse Breakdown Voltage: 66.7V; Reverse Standoff Voltage: 60V; Schedule B: 8541100050, 8541100050|8541100050|8541100050|8541100050|8541100050, 8541100080; Termination: SMD/SMT; ComponentLink1URL: https://datasheet.octopart.com:443/PTVS60VP1UP%2C115-Nexperia-datasheet-85391138.pdf?src-supplier=IHS; ComponentLink1Description: https://datasheet.octopart.com:443/PTVS60VP1UP%2C115-Nexperia-datasheet-85391138.pdf?src-supplier=IHS; ComponentLink2URL: https://datasheet.octopart.com:443/PTVS60VP1UP%2C115-Nexperia-datasheet-10026048.pdf?src-supplier=IHS; ComponentLink2Description: https://datasheet.octopart.com:443/PTVS60VP1UP%2C115-Nexperia-datasheet-10026048.pdf?src-supplier=IHS; ComponentLink3URL: https://datasheet.octopart.com:443/PTVS60VP1UP%2C115-Nexperia-datasheet-103140512.pdf?src-supplier=TME; ComponentLink3Description: https://datasheet.octopart.com:443/PTVS60VP1UP%2C115-Nexperia-datasheet-103140512.pdf?src-supplier=TME; ComponentLink4URL: http://sigma.octopart.com:80/reach_statement/NXP-Semiconductors-company-13.pdf?src-supplier=Compliance+Statements; ComponentLink4Description: http://sigma.octopart.com:80/reach_statement/NXP-Semiconductors-company-13.pdf?src-supplier=Compliance+Statements; ComponentLink5URL: http://sigma.octopart.com:80/rohs_statement/NXP-Semiconductors-company-12.pdf?src-supplier=Compliance+Statements; ComponentLink5Description: http://sigma.octopart.com:80/rohs_statement/NXP-Semiconductors-company-12.pdf?src-supplier=Compliance+Statements
footprint TVS_DIODE
pins: A, K

## R_0805
designator R?, comment 10K
RES 1/8W 0805; Manufacturer: Stackpole Electronics; Manufacturer Part Number: RNCF0805TKY10K0; Manufacturer Package Identifier: 0805 (2012 metric); Max Power Dissipation: 125mW; Value: 10kΩ; Temperature Coefficient: 5ppm/°C; Tolerance: 0.01%; Working Voltage: 150V; Supplier: DigiKey; Supplier Part Number: RNCF0805TKY10K0CT-ND; RoHS: Compliant; Category: Chip SMD Resistors; Stock: 4649; Pricing: 1=1.61, 10=1.334, 50=1.1716, 100=1.1105, 500=0.99044, 1000=0.94751, 2000=0.90945, 3000=0.8893, 5000=0.86599, 7000=0.85183, 10000=0.8378 (USD); Case/Package: 0805; Case Code (Imperial): 0805; Case Code (Metric): 2012; Composition: Thin Film; Country of Origin: Taiwan; Export Control Classification Number (ECCN) Code: EAR99; Features: Moisture Resistant; Height: 550µm; Harmonized Tariff Schedule (HTS) Code: 8533.21.00.30; Introduction Date: 2011-06-03; Lead Free: Lead Free; Length: 2mm; Lifecycle Status: Production; Max Operating Temperature: 155°C; Min Operating Temperature: -55°C; Mounting Technology: Surface Mount; Number of Terminals: 2; Number of Terminations: 2; Packaging: Tape & Reel (TR); Power Rating: 125mW; Ratings: AEC-Q200; REACH SVHC: Yes; Schedule B: 8533210045, 8533210045|8533210045|8533210045|8533210045|8533210045; Width: 1.25mm; ComponentLink1URL: https://datasheet.octopart.com:443/RNCF0805TKY10K0-Stackpole-Electronics-datasheet-182148124.pdf?src-supplier=IHS; ComponentLink1Description: https://datasheet.octopart.com:443/RNCF0805TKY10K0-Stackpole-Electronics-datasheet-182148124.pdf?src-supplier=IHS; ComponentLink2URL: https://datasheet.octopart.com:443/RNCF0805TKY10K0-Stackpole-Electronics-datasheet-12511394.pdf?src-supplier=Factory+Futures; ComponentLink2Description: https://datasheet.octopart.com:443/RNCF0805TKY10K0-Stackpole-Electronics-datasheet-12511394.pdf?src-supplier=Factory+Futures; ComponentLink3URL: https://datasheet.octopart.com:443/RNCF0805TKY10K0-Stackpole-Electronics-datasheet-141158876.pdf?src-supplier=Stackpole+Electronics; ComponentLink3Description: https://datasheet.octopart.com:443/RNCF0805TKY10K0-Stackpole-Electronics-datasheet-141158876.pdf?src-supplier=Stackpole+Electronics; ComponentLink4URL: https://datasheet.octopart.com:443/RNCF0805TKY10K0-Stackpole-Electronics-datasheet-28504821.pdf?src-supplier=Master+Electronics; ComponentLink4Description: https://datasheet.octopart.com:443/RNCF0805TKY10K0-Stackpole-Electronics-datasheet-28504821.pdf?src-supplier=Master+Electronics; ComponentLink5URL: https://datasheet.octopart.com/RNCF0805TKY10K0-Stackpole-Electronics-datasheet-11755897.pdf; ComponentLink5Description: https://datasheet.octopart.com/RNCF0805TKY10K0-Stackpole-Electronics-datasheet-11755897.pdf; ComponentLink6URL: http://sigma.octopart.com:80/15941409/materials_sheet/Stackpole-Electronics-RNCF0805TKY10K0.pdf?src-supplier=Compliance+Statements; ComponentLink6Description: http://sigma.octopart.com:80/15941409/materials_sheet/Stackpole-Electronics-RNCF0805TKY10K0.pdf?src-supplier=Compliance+Statements; ComponentLink7URL: http://sigma.octopart.com:80/141158212/rohs_statement/Stackpole-Electronics-RNCF0805TKY10K0.pdf?src-supplier=Compliance+Statements; ComponentLink7Description: http://sigma.octopart.com:80/141158212/rohs_statement/Stackpole-Electronics-RNCF0805TKY10K0.pdf?src-supplier=Compliance+Statements; ComponentLink8URL: http://sigma.octopart.com:80/141158211/reach_statement/Stackpole-Electronics-RNCF0805TKY10K0.pdf?src-supplier=Compliance+Statements; ComponentLink8Description: http://sigma.octopart.com:80/141158211/reach_statement/Stackpole-Electronics-RNCF0805TKY10K0.pdf?src-supplier=Compliance+Statements
footprint R0805
pins: 1, 2

## RC1206JR-070RL
designator R_PROT_ISO_?, comment Removable downstream isolation links
GENERAL PURPOSE CHIP RESISTOR Metal Glaze/thick Film, 0.25W, 0ohm, Surface Mount, 1206; Manufacturer: Yageo Group; Manufacturer Part Number: RC1206JR-070RL; Max Power Dissipation: 250mW; Value: 0Ω; Temperature Coefficient: 300ppm/°C; Tolerance: 5%; Voltage Rating: 200V; Supplier: DigiKey; Supplier Part Number: 311-0.0ERTR-ND; RoHS: Compliant; Category: Chip SMD Resistors; Stock: 1263183; Pricing: 5000=0.009, 10000=0.00815, 15000=0.00772, 25000=0.00723, 35000=0.00694, 50000=0.00665 (USD); Case/Package: 1206; Case Code (Imperial): 1206; Case Code (Metric): 3216; China RoHS: Non-Compliant; Composition: Thick Film; Contact Plating: Tin; Depth: 1.6mm; Height: 550µm; Lead Free: Lead Free; Length: 3.1mm; Lifecycle Status: Production; Max Operating Temperature: 155°C; Military Standard: Not; Min Operating Temperature: -55°C; Mounting Technology: Surface Mount; Pins: 2; Number of Terminals: 2; Number of Terminations: 2; Packaging: Tape & Reel; Power Rating: 250mW; Radiation Hardening: No; REACH SVHC: Yes; Termination: SMD/SMT; Voltage Rating (AC): 200V; Voltage Rating (DC): 200V; Width: 1.6mm; ComponentLink1URL: https://datasheet.octopart.com:443/RC1206JR-070RL-Yageo-datasheet-182189538.pdf?src-supplier=IHS; ComponentLink1Description: https://datasheet.octopart.com:443/RC1206JR-070RL-Yageo-datasheet-182189538.pdf?src-supplier=IHS; ComponentLink2URL: https://datasheet.octopart.com:443/RC1206JR-070RL-Yageo-datasheet-137700087.pdf?src-supplier=Upverter; ComponentLink2Description: https://datasheet.octopart.com:443/RC1206JR-070RL-Yageo-datasheet-137700087.pdf?src-supplier=Upverter; ComponentLink3URL: https://datasheet.octopart.com:443/RC1206JR-070RL-Yageo-datasheet-98239111.pdf?src-supplier=Upverter; ComponentLink3Description: https://datasheet.octopart.com:443/RC1206JR-070RL-Yageo-datasheet-98239111.pdf?src-supplier=Upverter; ComponentLink4URL: https://sigma.octopart.com:443/138820526/technical_drawing/Yageo-RC1206JR-070RL.pdf?src-supplier=Upverter; ComponentLink4Description: https://sigma.octopart.com:443/138820526/technical_drawing/Yageo-RC1206JR-070RL.pdf?src-supplier=Upverter; ComponentLink5URL: https://datasheet.octopart.com:443/RC1206JR-070RL-Yageo-datasheet-8359522.pdf?src-supplier=element14+APAC; ComponentLink5Description: https://datasheet.octopart.com:443/RC1206JR-070RL-Yageo-datasheet-8359522.pdf?src-supplier=element14+APAC; ComponentLink6URL: https://datasheet.octopart.com:443/RC1206JR-070RL-Yageo-datasheet-13032847.pdf?src-supplier=element14+APAC; ComponentLink6Description: https://datasheet.octopart.com:443/RC1206JR-070RL-Yageo-datasheet-13032847.pdf?src-supplier=element14+APAC; ComponentLink7URL: https://datasheet.octopart.com:443/RC1206JR-070RL-Yageo-Group-datasheet-190305687.pdf?src-supplier=Future+Electronics; ComponentLink7Description: https://datasheet.octopart.com:443/RC1206JR-070RL-Yageo-Group-datasheet-190305687.pdf?src-supplier=Future+Electronics; ComponentLink8URL: https://datasheet.octopart.com:443/RC1206JR-070RL-Yageo-datasheet-164759695.pdf?src-supplier=Future+Electronics; ComponentLink8Description: https://datasheet.octopart.com:443/RC1206JR-070RL-Yageo-datasheet-164759695.pdf?src-supplier=Future+Electronics; ComponentLink9URL: https://datasheet.octopart.com:443/RC1206JR-070RL-Yageo-datasheet-127823281.pdf?src-supplier=Future+Electronics; ComponentLink9Description: https://datasheet.octopart.com:443/RC1206JR-070RL-Yageo-datasheet-127823281.pdf?src-supplier=Future+Electronics; ComponentLink10URL: https://datasheet.octopart.com:443/RC1206JR-070RL-Yageo-datasheet-103092701.pdf?src-supplier=Future+Electronics; ComponentLink10Description: https://datasheet.octopart.com:443/RC1206JR-070RL-Yageo-datasheet-103092701.pdf?src-supplier=Future+Electronics; ComponentLink11URL: https://datasheet.octopart.com:443/RC1206JR-070RL-Yageo-datasheet-67302840.pdf?src-supplier=Future+Electronics; ComponentLink11Description: https://datasheet.octopart.com:443/RC1206JR-070RL-Yageo-datasheet-67302840.pdf?src-supplier=Future+Electronics; ComponentLink12URL: https://datasheet.octopart.com:443/RC1206JR-070RL-Yageo-datasheet-27233761.pdf?src-supplier=Future+Electronics; ComponentLink12Description: https://datasheet.octopart.com:443/RC1206JR-070RL-Yageo-datasheet-27233761.pdf?src-supplier=Future+Electronics; ComponentLink13URL: https://datasheet.octopart.com:443/RC1206JR-070RL-Yageo-datasheet-8324387.pdf?src-supplier=Future+Electronics; ComponentLink13Description: https://datasheet.octopart.com:443/RC1206JR-070RL-Yageo-datasheet-8324387.pdf?src-supplier=Future+Electronics; ComponentLink14URL: https://datasheet.octopart.com:443/RC1206JR-070RL-Yageo-datasheet-62067350.pdf?src-supplier=Farnell; ComponentLink14Description: https://datasheet.octopart.com:443/RC1206JR-070RL-Yageo-datasheet-62067350.pdf?src-supplier=Farnell; ComponentLink15URL: https://datasheet.octopart.com:443/RC1206JR-070RL-Yageo-Group-datasheet-189192902.pdf?src-supplier=LCSC; ComponentLink15Description: https://datasheet.octopart.com:443/RC1206JR-070RL-Yageo-Group-datasheet-189192902.pdf?src-supplier=LCSC; ComponentLink16URL: https://datasheet.octopart.com:443/RC1206JR-070RL-Yageo-Group-datasheet-181964826.pdf?src-supplier=Newark; ComponentLink16Description: https://datasheet.octopart.com:443/RC1206JR-070RL-Yageo-Group-datasheet-181964826.pdf?src-supplier=Newark; ComponentLink17URL: https://datasheet.octopart.com:443/RC1206JR-070RL-Yageo-datasheet-12512621.pdf?src-supplier=Newark; ComponentLink17Description: https://datasheet.octopart.com:443/RC1206JR-070RL-Yageo-datasheet-12512621.pdf?src-supplier=Newark; ComponentLink18URL: https://datasheet.octopart.com:443/RC1206JR-070RL-Yageo-datasheet-79472498.pdf?src-supplier=Megastar; ComponentLink18Description: https://datasheet.octopart.com:443/RC1206JR-070RL-Yageo-datasheet-79472498.pdf?src-supplier=Megastar; ComponentLink19URL: https://datasheet.octopart.com/RC1206JR-070RL-Yageo-datasheet-73766026.pdf; ComponentLink19Description: https://datasheet.octopart.com/RC1206JR-070RL-Yageo-datasheet-73766026.pdf; ComponentLink20URL: https://datasheet.octopart.com:443/RC1206JR-070RL-Yageo-datasheet-118639.pdf?src-supplier=DigiKey; ComponentLink20Description: https://datasheet.octopart.com:443/RC1206JR-070RL-Yageo-datasheet-118639.pdf?src-supplier=DigiKey; ComponentLink21URL: https://datasheet.octopart.com:443/RC1206JR-070RL-Yageo-datasheet-499455.pdf?src-supplier=element14; ComponentLink21Description: https://datasheet.octopart.com:443/RC1206JR-070RL-Yageo-datasheet-499455.pdf?src-supplier=element14; ComponentLink22URL: https://datasheet.octopart.com:443/RC1206JR-070RL-Yageo-datasheet-6387275.pdf?src-supplier=element14; ComponentLink22Description: https://datasheet.octopart.com:443/RC1206JR-070RL-Yageo-datasheet-6387275.pdf?src-supplier=element14; ComponentLink23URL: http://sigma.octopart.com:80/conflict_mineral_statement/Yageo-company-3.pdf?src-supplier=Compliance+Statements; ComponentLink23Description: http://sigma.octopart.com:80/conflict_mineral_statement/Yageo-company-3.pdf?src-supplier=Compliance+Statements; ComponentLink24URL: http://sigma.octopart.com:80/rohs_statement/Yageo-company-2.pdf?src-supplier=Compliance+Statements; ComponentLink24Description: http://sigma.octopart.com:80/rohs_statement/Yageo-company-2.pdf?src-supplier=Compliance+Statements
pins: 1, 2

## RGV3216P-3004-B-T1
designator R?, comment 3M
RES 3M OHM 0.1% 1/4W 1206; Manufacturer: Susumu; Manufacturer Part Number: RGV3216P-3004-B-T1; Power Rating: 250mW; Value: 3MΩ; Temperature Coefficient: 25ppm/°C; Working Voltage: 700V; Supplier: DigiKey; Supplier Part Number: 408-RGV3216P-3004-B-T1CT-ND; RoHS: Compliant; Category: Chip SMD Resistors; Stock: 5108; Pricing: 1=0.4, 10=0.332, 50=0.291, 100=0.2751, 500=0.243 (USD); Case/Package: 1206; Composition: Thin Film; Height: 400µm; Length: 3.2mm; Lifecycle Status: Production; Max Operating Temperature: 155°C; Min Operating Temperature: -55°C; Mounting Technology: Surface Mount; Number of Terminals: 2; Ratings: AEC-Q200; REACH SVHC: Yes; Tolerance: 0.1%; Width: 1.6mm; ComponentLink1URL: https://datasheet.octopart.com:443/RGV3216P-3004-B-T1-Susumu-datasheet-182148317.pdf?src-supplier=IHS; ComponentLink1Description: https://datasheet.octopart.com:443/RGV3216P-3004-B-T1-Susumu-datasheet-182148317.pdf?src-supplier=IHS
footprint R1206
pins: 1, 2

## RGV3216P-3603-B-T1
designator R?, comment 360K
RES 360K OHM 0.1% 1/4W 1206; Manufacturer: Susumu; Manufacturer Part Number: RGV3216P-3603-B-T1; Power Rating: 250mW; Value: 360kΩ; Temperature Coefficient: 25ppm/°C; Working Voltage: 700V; Supplier: DigiKey; Supplier Part Number: 408-RGV3216P-3603-B-T1CT-ND; RoHS: Compliant; Category: Chip SMD Resistors; Stock: 572; Pricing: 1=0.38, 10=0.313, 50=0.2746, 100=0.2595, 500=0.22926 (USD); Case/Package: 1206; Composition: Thin Film; Export Control Classification Number (ECCN) Code: EAR99; Height: 400µm; Harmonized Tariff Schedule (HTS) Code: 8533.21.00.30; Introduction Date: 2020-06-08; Length: 3.2mm; Lifecycle Status: Production; Max Operating Temperature: 155°C; Min Operating Temperature: -55°C; Mounting Technology: Surface Mount; Number of Terminals: 2; Ratings: AEC-Q200; REACH SVHC: Yes; Tolerance: 0.1%; Width: 1.6mm; ComponentLink1URL: https://datasheet.octopart.com:443/RGV3216P-3603-B-T1-Susumu-datasheet-182148317.pdf?src-supplier=IHS; ComponentLink1Description: https://datasheet.octopart.com:443/RGV3216P-3603-B-T1-Susumu-datasheet-182148317.pdf?src-supplier=IHS
footprint R1206
pins: 1, 2

## RGV3216P-6203-B-T1
designator R?, comment 620K
RES 620K OHM 0.1% 1/4W 1206; Manufacturer: Susumu; Manufacturer Part Number: RGV3216P-6203-B-T1; Power Rating: 250mW; Value: 620kΩ; Temperature Coefficient: 25ppm/°C; Working Voltage: 700V; Supplier: DigiKey; Supplier Part Number: 408-RGV3216P-6203-B-T1CT-ND; RoHS: Compliant; Category: Chip SMD Resistors; Stock: 69; Pricing: 1=0.38, 10=0.313, 50=0.2746, 100=0.2595, 500=0.22926 (USD); Case/Package: 1206; Composition: Thin Film; Height: 400µm; Length: 3.2mm; Lifecycle Status: Production; Max Operating Temperature: 155°C; Min Operating Temperature: -55°C; Mounting Technology: Surface Mount; Number of Terminals: 2; Ratings: AEC-Q200; REACH SVHC: Yes; Tolerance: 0.1%; Width: 1.6mm; ComponentLink1URL: https://datasheet.octopart.com:443/RGV3216P-6203-B-T1-Susumu-datasheet-182148317.pdf?src-supplier=IHS; ComponentLink1Description: https://datasheet.octopart.com:443/RGV3216P-6203-B-T1-Susumu-datasheet-182148317.pdf?src-supplier=IHS
footprint R1206
pins: 1, 2